# EAGLE library part ADG821 (library Spectron2)
Dual SPST Switches
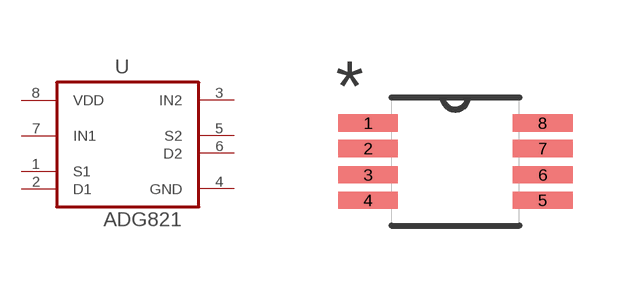
[diagram p2: symbol with the pads of SOP65P490X110-8N; footprint SOP65P490X110-8N]

Designator prefix U

## ADG821 (MPN: ADG821BRMZ; OC_FARNELL: 1661039; OC_NEWARK: 19M8674; PACKAGE: MSOP-8; SUPPLIER: ANALOG DEVICES)  [SOP65P490X110-8N]
1  S1
2  D1
3  IN2  in
4  GND  pas
5  S2
6  D2
7  IN1  in
8  VDD  pwr

## Footprint SOP65P490X110-8N (pad centres in mm)
smd 1.499 x 0.432: 1 -2.184,0.965; 2 -2.184,0.33; 3 -2.184,-0.33; 4 -2.184,-0.965; 5 2.184,-0.965; 6 2.184,-0.33; 7 2.184,0.33; 8 2.184,0.965